# Altium schematic symbol library 78800-0001.SchLib: 1 symbol
Pins are listed as number, name and electrical type; pins without a type are passive.

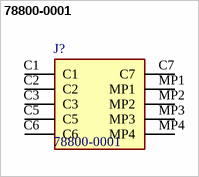
[diagram p0: symbol 78800-0001]

## 78800-0001
designator J?
Molex 78800 Series Vertical Hinged Micro SIM Card Connector with SMT Termination; Geometry.Height: 1mm; Mouser Part Number: 538-78800-0001; Mouser Price/Stock: https://www.mouser.co.uk/ProductDetail/Molex/78800-0001?qs=aW78vNDzAorsg%2FJdp7zzAQ%3D%3D; Manufacturer_Name: Molex; Manufacturer_Part_Number: 78800-0001; Datasheet Link: https://www.molex.com/pdm_docs/sd/788000001_sd.pdf
footprint 788000001
pins: C1, C2, C3, C5, C6, C7, MP1, MP2, MP3, MP4